# EAGLE library part ESP-06 (library esp8266modules)
ESP8266 Wifi Module ESP-06
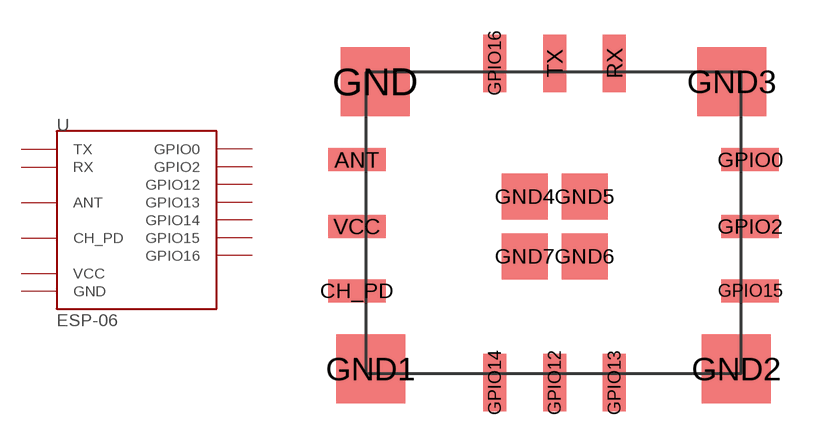
[diagram p4: symbol with the pads of ESP-06; footprint ESP-06]

Designator prefix U

## ESP-06 (PINS: 12 + GND)  [ESP-06]
ANT  ANT
CH_PD  CH_PD
GND  GND
GND1  GND2
GND2  GND3
GND3  GND4
GND4  GND5
GND5  GND6
GND6  GND7
GND7  GND8
GPIO0  GPIO0
GPIO2  GPIO2
GPIO12  GPIO12
GPIO13  GPIO13
GPIO14  GPIO14
GPIO15  GPIO15
GPIO16  GPIO16
RX  RX
TX  TX
VCC  VCC

## Footprint ESP-06 (pad centres in mm)
ESP8266 Module ESP-06
smd 2.5 x 1: ANT -8.4,3.3; CH_PD -8.4,-2.4; GPIO0 8.7,3.3; GPIO2 8.7,0.4; GPIO15 8.7,-2.4; VCC -8.4,0.4
smd 3 x 3: GND -7.6,6.7; GND1 -7.8,-5.8; GND2 8.1,-5.8; GND3 7.9,6.7
smd 2 x 2: GND4 -1.1,1.7; GND5 1.5,1.7; GND6 1.5,-0.9; GND7 -1.1,-0.9
smd 1 x 2.5: GPIO12 0.2,-6.4; GPIO13 2.8,-6.4; GPIO14 -2.4,-6.4; GPIO16 -2.4,7.5; RX 2.8,7.5; TX 0.2,7.5